# Altium footprint library LGA.PcbLib: 1 footprints
Each footprint in its own frame and in the unit in brackets; x right, y up, seen from the top. Pads: shape width x height; smd on the part's side, far side on the other; paste and mask are expansions set on the pad; w line width, h text height; cw(c..) or ccw(c..) is an arc to the next point about the centre after c.
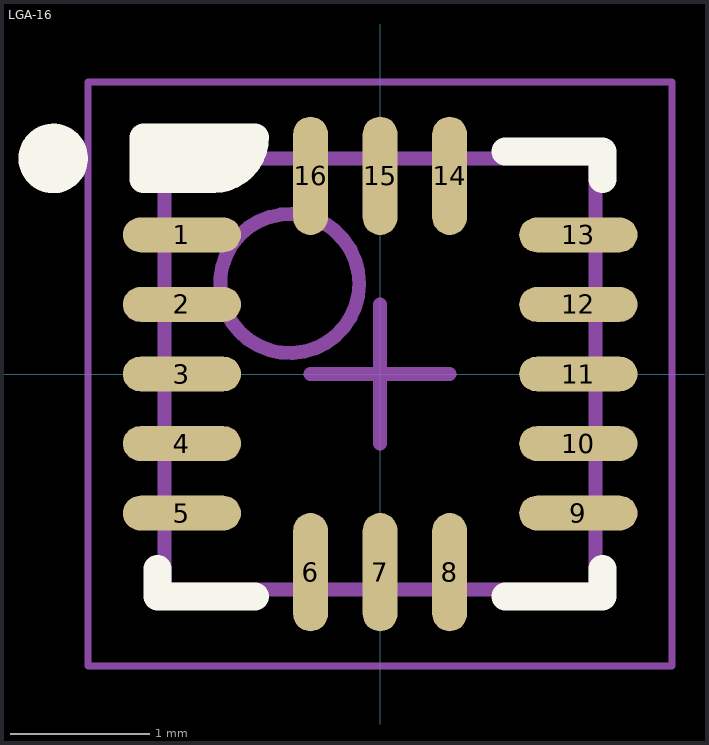
[diagram p0: the footprint, top view; thin cyan lines are the x and y axes]

## LGA-16 [mm] "LGA, 16-Leads, Body 3.00x3.00mm, Pitch 0.50mm, IPC Medium Density"
height 0.8
pads (16):
  oval 0.85x0.25 smd: 1(-1.425,1) 2(-1.425,0.5) 3(-1.425,0) 4(-1.425,-0.5) 5(-1.425,-1) 9(1.425,-1) 10(1.425,-0.5) 11(1.425,0) 12(1.425,0.5) 13(1.425,1)
  oval 0.25x0.85 smd: 6(-0.5,-1.425) 7(0,-1.425) 8(0.5,-1.425) 14(0.5,1.425) 15(0,1.425) 16(-0.5,1.425)
Top Overlay:
  circle w0.25: c-2.35,1.55 r0.125
  region: -0.9,1.7 -1.2,1.4 -1.7,1.4 -1.7,1.7
  lines w0.2: -1.6,-1.4 -1.6,-1.6 -0.9,-1.6 ; 0.9,-1.6 1.6,-1.6 1.6,-1.4 ; 0.9,1.6 1.6,1.6 1.6,1.4 ; -0.9,1.7 cw(c-1.2,1.7) -1.2,1.4 -1.7,1.4 -1.7,1.7 -0.9,1.7 ; -0.9,1.7 -0.9,1.7
Mechanical 13:
  circle w0.1: c-0.65,0.65 r0.5
  lines w0.1: -1.55,-1.55 1.55,-1.55 1.55,1.55 -1.55,1.55 -1.55,-1.55
Mechanical 15:
  lines w0.05: -2.1,-2.1 2.1,-2.1 2.1,2.1 -2.1,2.1 -2.1,-2.1
  lines w0.1: -0.5,0 0.5,0 ; 0,-0.5 0,0.5
3D body "INFINEON LGA-16 3x3.step": height 0.8, standoff 0, extent -1.551,-1.551 1.551,1.551